# Altium schematic symbol library CRGH2512J8R2.SchLib: 1 symbol
Pins are listed as number, name and electrical type; pins without a type are passive.

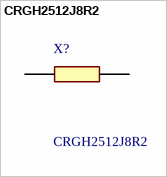
[diagram p0: symbol CRGH2512J8R2]

## CRGH2512J8R2
designator X?
Configuration Features: Number of Resistors 1 | Dimensions: Product Height .022 INCH | Product Length .25 INCH | Product Length 6.35 MM | Product Height .55 MM | Product Width .126 INCH | Product Width 3.2 MM | Electrical Characteristics: Resistance Class Up to 1k | Power Rating 2 WATT | Resistance Value 8.2 OHM | Passive Component Tolerance 5 PCT | Operating Voltage 250 V | Packaging Features: Packaging Method Taped & Reeled | Product Type Features: Package Size Code 2512 | Element Type Thick Film | Resi; Manufacturer_Name: TE Connectivity; Geometry.Height: 0.65mm; Mouser Part Number: 279-CRGH2512J8R2; Mouser Price/Stock: https://www.mouser.co.uk/ProductDetail/TE-Connectivity-Holsworthy/CRGH2512J8R2?qs=n4i9pByFsMSM5rRkdAkXnA%3D%3D; Manufacturer_Part_Number: CRGH2512J8R2; Datasheet Link: https://www.te.com/commerce/DocumentDelivery/DDEController?Action=srchrtrv&DocNm=1309350_PASSIVE_COMPONENT&DocType=Catalog%20Section&DocLang=English&PartCntxt=2-1879501-3&DocFormat=pdf
footprint RESC6432X65N
pins: 1, 2